# EAGLE library part TB-5.0-6 (library Misaka-Connector)
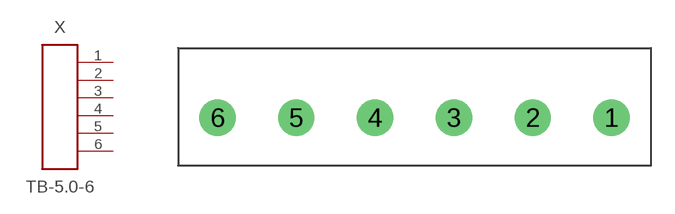
[diagram p12: symbol with the pads of TB_5.0_6; footprint TB_5.0_6]

Designator prefix X

## TB-5.0-6  [TB_5.0_6]
1  1  pas
2  2  pas
3  3  pas
4  4  pas
5  5  pas
6  6  pas

## Footprint TB_5.0_6 (pad centres in mm)
drill 1.3 pad 2.3: 1 12.5,0; 2 7.5,0; 3 2.5,0; 4 -2.5,0; 5 -7.5,0; 6 -12.5,0